# Altium footprint library Pin Header WR-PHD_1.27 mm.PcbLib: 31 footprints (part 1 of 2)
Each footprint in its own frame and in the unit in brackets; x right, y up, seen from the top. Pads: shape width x height; smd on the part's side, far side on the other; paste and mask are expansions set on the pad; w line width, h text height; cw(c..) or ccw(c..) is an arc to the next point about the centre after c.
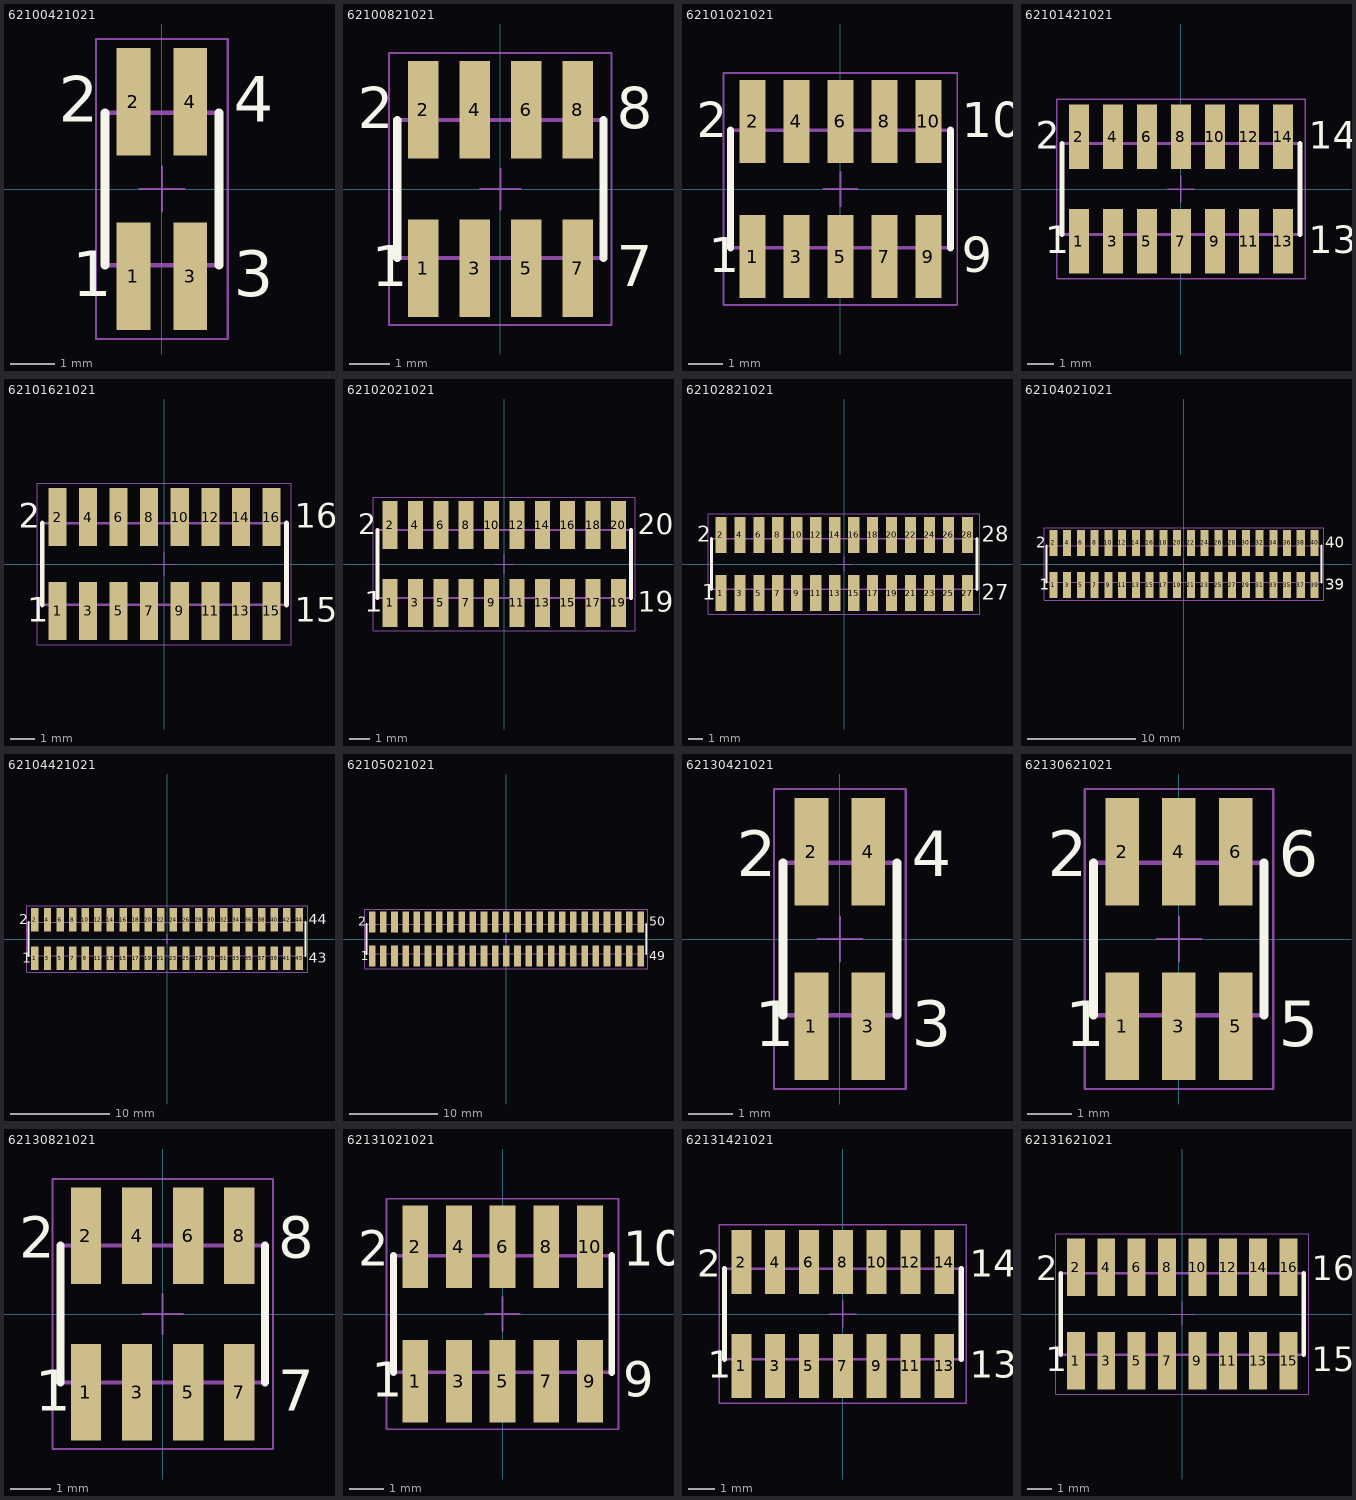
[diagram p0: the footprints below, top view; thin cyan lines are the x and y axes]

## 62100421021 [mm] "Pin Header, pitch 1.27 mm, SMD, Vertical, dual row, 4p"
height 6.55
pads (4):
  rect 0.75x2.4 smd: 1(-0.635,-1.95) 2(-0.635,1.95) 3(0.635,-1.95) 4(0.635,1.95)
Top Overlay:
  lines w0.2: -1.27,-1.7 -1.27,1.7 ; 1.27,-1.7 1.27,1.7
  text "1" at -2,-2.4 h1.02
  text "2" at -2.3,1.5 h1.02
  text "3" at 1.6,-2.4 h1.02
  text "4" at 1.6,1.5 h1.02
Mechanical 13:
  lines w0.1: -0.835,-1.7 -0.835,-2.5 -0.435,-2.5 -0.435,-1.7 ; -0.835,1.7 -0.835,2.5 -0.435,2.5 -0.435,1.7 ; 0.435,-1.7 0.435,-2.5 0.835,-2.5 0.835,-1.7 ; 0.435,1.7 0.435,2.5 0.835,2.5 0.835,1.7 ; -1.27,-1.7 -1.27,1.7 1.27,1.7 1.27,-1.7 -1.27,-1.7
Mechanical 15:
  lines w0.05: -0.5,0 0.5,0 ; 0,-0.5 0,0.5 ; -1.47,-3.35 -1.47,3.35 1.47,3.35 1.47,-3.35 -1.47,-3.35
3D body "62100421021.stp": height 5.9, standoff 0, extent -1.27,-2.55 1.27,2.55

## 62100821021 [mm] "Pin Header, pitch 1.27 mm, SMD, Vertical, dual row, 8p"
height 6.55
pads (8):
  rect 0.75x2.4 smd: 1(-1.905,-1.95) 2(-1.905,1.95) 3(-0.635,-1.95) 4(-0.635,1.95) 5(0.635,-1.95) 6(0.635,1.95) 7(1.905,-1.95) 8(1.905,1.95)
Top Overlay:
  lines w0.2: -2.54,-1.7 -2.54,1.7 ; 2.54,-1.7 2.54,1.7
  text "2" at -3.509,1.5 h1.02
  text "1" at -3.17,-2.4 h1.02
  text "7" at 2.87,-2.4 h1.02
  text "8" at 2.87,1.5 h1.02
Mechanical 13:
  lines w0.1: -2.105,-1.7 -2.105,-2.5 -1.705,-2.5 -1.705,-1.7 ; -2.105,1.7 -2.105,2.5 -1.705,2.5 -1.705,1.7 ; -0.835,-1.7 -0.835,-2.5 -0.435,-2.5 -0.435,-1.7 ; -0.835,1.7 -0.835,2.5 -0.435,2.5 -0.435,1.7 ; 0.435,-1.7 0.435,-2.5 0.835,-2.5 0.835,-1.7 ; 0.435,1.7 0.435,2.5 0.835,2.5 0.835,1.7 ; 1.705,-1.7 1.705,-2.5 2.105,-2.5 2.105,-1.7 ; 1.705,1.7 1.705,2.5 2.105,2.5 2.105,1.7 ; -2.54,-1.7 2.54,-1.7 2.54,1.7 -2.54,1.7 -2.54,-1.7
Mechanical 15:
  lines w0.05: -0.5,0 0.5,0 ; 0,-0.5 0,0.5 ; -2.74,-3.35 2.74,-3.35 2.74,3.35 -2.74,3.35 -2.74,-3.35
3D body "62100821021.stp": height 5.9, standoff -0.01, extent -2.54,-2.5 2.54,2.5

## 62101021021 [mm] "Pin Header, pitch 1.27 mm, SMD, Vertical, dual row, 10p"
height 6.55
pads (10):
  rect 0.75x2.4 smd: 1(-2.54,-1.95) 2(-2.54,1.95) 3(-1.27,-1.95) 4(-1.27,1.95) 5(0,-1.95) 6(0,1.95) 7(1.27,-1.95) 8(1.27,1.95) 9(2.54,-1.95) 10(2.54,1.95)
Top Overlay:
  lines w0.2: -3.175,-1.7 -3.175,1.7 ; 3.175,-1.7 3.175,1.7
  text "10" at 3.505,1.5 h1.02
  text "9" at 3.505,-2.4 h1.02
  text "1" at -3.805,-2.4 h1.02
  text "2" at -4.144,1.5 h1.02
Mechanical 13:
  lines w0.1: -2.74,-1.7 -2.74,-2.5 -2.34,-2.5 -2.34,-1.7 ; -2.74,1.7 -2.74,2.5 -2.34,2.5 -2.34,1.7 ; -1.47,-1.7 -1.47,-2.5 -1.07,-2.5 -1.07,-1.7 ; -1.47,1.7 -1.47,2.5 -1.07,2.5 -1.07,1.7 ; -0.2,-1.7 -0.2,-2.5 0.2,-2.5 0.2,-1.7 ; -0.2,1.7 -0.2,2.5 0.2,2.5 0.2,1.7 ; 1.07,-1.7 1.07,-2.5 1.47,-2.5 1.47,-1.7 ; 1.07,1.7 1.07,2.5 1.47,2.5 1.47,1.7 ; 2.34,-1.7 2.34,-2.5 2.74,-2.5 2.74,-1.7 ; 2.34,1.7 2.34,2.5 2.74,2.5 2.74,1.7 ; -3.175,-1.7 -3.175,1.7 3.175,1.7 3.175,-1.7 -3.175,-1.7
Mechanical 15:
  lines w0.05: -0.5,0 0.5,0 ; 0,-0.5 0,0.5 ; -3.375,-3.35 -3.375,3.35 3.375,3.35 3.375,-3.35 -3.375,-3.35
3D body "62101021021.stp": height 5.9, standoff -0.01, extent -3.175,-2.5 3.175,2.5

## 62101421021 [mm] "Pin Header, pitch 1.27 mm, SMD, Vertical, dual row, 14p"
height 6.55
pads (14):
  rect 0.75x2.4 smd: 1(-3.81,-1.95) 2(-3.81,1.95) 3(-2.54,-1.95) 4(-2.54,1.95) 5(-1.27,-1.95) 6(-1.27,1.95) 7(0,-1.95) 8(0,1.95) 9(1.27,-1.95) 10(1.27,1.95) 11(2.54,-1.95) 12(2.54,1.95) 13(3.81,-1.95) 14(3.81,1.95)
Top Overlay:
  lines w0.2: -4.445,-1.7 -4.445,1.7 ; 4.445,-1.7 4.445,1.7
  text "14" at 4.775,1.5 h1.02
  text "13" at 4.775,-2.4 h1.02
  text "2" at -5.414,1.5 h1.02
  text "1" at -5.075,-2.4 h1.02
Mechanical 13:
  lines w0.1: -4.01,-1.7 -4.01,-2.5 -3.61,-2.5 -3.61,-1.7 ; -4.01,1.7 -4.01,2.5 -3.61,2.5 -3.61,1.7 ; -2.74,-1.7 -2.74,-2.5 -2.34,-2.5 -2.34,-1.7 ; -2.74,1.7 -2.74,2.5 -2.34,2.5 -2.34,1.7 ; -1.47,-1.7 -1.47,-2.5 -1.07,-2.5 -1.07,-1.7 ; -1.47,1.7 -1.47,2.5 -1.07,2.5 -1.07,1.7 ; -0.2,-1.7 -0.2,-2.5 0.2,-2.5 0.2,-1.7 ; -0.2,1.7 -0.2,2.5 0.2,2.5 0.2,1.7 ; 1.07,-1.7 1.07,-2.5 1.47,-2.5 1.47,-1.7 ; 1.07,1.7 1.07,2.5 1.47,2.5 1.47,1.7 ; 2.34,-1.7 2.34,-2.5 2.74,-2.5 2.74,-1.7 ; 2.34,1.7 2.34,2.5 2.74,2.5 2.74,1.7 ; 3.61,-1.7 3.61,-2.5 4.01,-2.5 4.01,-1.7 ; 3.61,1.7 3.61,2.5 4.01,2.5 4.01,1.7 ; -4.445,-1.7 4.445,-1.7 4.445,1.7 -4.445,1.7 -4.445,-1.7
Mechanical 15:
  lines w0.05: -0.5,0 0.5,0 ; 0,-0.5 0,0.5 ; -4.645,-3.35 4.645,-3.35 4.645,3.35 -4.645,3.35 -4.645,-3.35
3D body "62101421021.stp": height 5.9, standoff -0.01, extent -4.445,-2.5 4.445,2.5

## 62101621021 [mm] "Pin Header, pitch 1.27 mm, SMD, Vertical, dual row, 16p"
height 6.55
pads (16):
  rect 0.75x2.4 smd: 1(-4.445,-1.95) 2(-4.445,1.95) 3(-3.175,-1.95) 4(-3.175,1.95) 5(-1.905,-1.95) 6(-1.905,1.95) 7(-0.635,-1.95) 8(-0.635,1.95) 9(0.635,-1.95) 10(0.635,1.95) 11(1.905,-1.95) 12(1.905,1.95) 13(3.175,-1.95) 14(3.175,1.95) 15(4.445,-1.95) 16(4.445,1.95)
Top Overlay:
  lines w0.2: -5.08,-1.7 -5.08,1.7 ; 5.08,-1.7 5.08,1.7
  text "16" at 5.41,1.5 h1.02
  text "15" at 5.41,-2.4 h1.02
  text "2" at -6.049,1.5 h1.02
  text "1" at -5.71,-2.4 h1.02
Mechanical 13:
  lines w0.1: -4.645,-1.7 -4.645,-2.5 -4.245,-2.5 -4.245,-1.7 ; -4.645,1.7 -4.645,2.5 -4.245,2.5 -4.245,1.7 ; -3.375,-1.7 -3.375,-2.5 -2.975,-2.5 -2.975,-1.7 ; -3.375,1.7 -3.375,2.5 -2.975,2.5 -2.975,1.7 ; -2.105,-1.7 -2.105,-2.5 -1.705,-2.5 -1.705,-1.7 ; -2.105,1.7 -2.105,2.5 -1.705,2.5 -1.705,1.7 ; -0.835,-1.7 -0.835,-2.5 -0.435,-2.5 -0.435,-1.7 ; -0.835,1.7 -0.835,2.5 -0.435,2.5 -0.435,1.7 ; 0.435,-1.7 0.435,-2.5 0.835,-2.5 0.835,-1.7 ; 0.435,1.7 0.435,2.5 0.835,2.5 0.835,1.7 ; 1.705,-1.7 1.705,-2.5 2.105,-2.5 2.105,-1.7 ; 1.705,1.7 1.705,2.5 2.105,2.5 2.105,1.7 ; 2.975,-1.7 2.975,-2.5 3.375,-2.5 3.375,-1.7 ; 2.975,1.7 2.975,2.5 3.375,2.5 3.375,1.7 ; 4.245,-1.7 4.245,-2.5 4.645,-2.5 4.645,-1.7 ; 4.245,1.7 4.245,2.5 4.645,2.5 4.645,1.7 ; -5.08,-1.7 5.08,-1.7 5.08,1.7 -5.08,1.7 -5.08,-1.7
Mechanical 15:
  lines w0.05: -0.5,0 0.5,0 ; 0,-0.5 0,0.5 ; -5.28,-3.35 5.28,-3.35 5.28,3.35 -5.28,3.35 -5.28,-3.35
3D body "62101621021.stp": height 5.9, standoff -0.01, extent -5.08,-2.5 5.08,2.5

## 62102021021 [mm] "Pin Header, pitch 1.27 mm, SMD, Vertical, dual row, 20p"
height 6.55
pads (20):
  rect 0.75x2.4 smd: 1(-5.715,-1.95) 2(-5.715,1.95) 3(-4.445,-1.95) 4(-4.445,1.95) 5(-3.175,-1.95) 6(-3.175,1.95) 7(-1.905,-1.95) 8(-1.905,1.95) 9(-0.635,-1.95) 10(-0.635,1.95) 11(0.635,-1.95) 12(0.635,1.95) 13(1.905,-1.95) 14(1.905,1.95) 15(3.175,-1.95) 16(3.175,1.95) 17(4.445,-1.95) 18(4.445,1.95) 19(5.715,-1.95) 20(5.715,1.95)
Top Overlay:
  lines w0.2: -6.35,-1.7 -6.35,1.7 ; 6.35,-1.7 6.35,1.7
  text "20" at 6.68,1.5 h1.02
  text "19" at 6.68,-2.4 h1.02
  text "1" at -6.98,-2.4 h1.02
  text "2" at -7.319,1.5 h1.02
Mechanical 13:
  lines w0.1: -5.915,-1.7 -5.915,-2.5 -5.515,-2.5 -5.515,-1.7 ; -5.915,1.7 -5.915,2.5 -5.515,2.5 -5.515,1.7 ; -4.645,-1.7 -4.645,-2.5 -4.245,-2.5 -4.245,-1.7 ; -4.645,1.7 -4.645,2.5 -4.245,2.5 -4.245,1.7 ; -3.375,-1.7 -3.375,-2.5 -2.975,-2.5 -2.975,-1.7 ; -3.375,1.7 -3.375,2.5 -2.975,2.5 -2.975,1.7 ; -2.105,-1.7 -2.105,-2.5 -1.705,-2.5 -1.705,-1.7 ; -2.105,1.7 -2.105,2.5 -1.705,2.5 -1.705,1.7 ; -0.835,-1.7 -0.835,-2.5 -0.435,-2.5 -0.435,-1.7 ; -0.835,1.7 -0.835,2.5 -0.435,2.5 -0.435,1.7 ; 0.435,-1.7 0.435,-2.5 0.835,-2.5 0.835,-1.7 ; 0.435,1.7 0.435,2.5 0.835,2.5 0.835,1.7 ; 1.705,-1.7 1.705,-2.5 2.105,-2.5 2.105,-1.7 ; 1.705,1.7 1.705,2.5 2.105,2.5 2.105,1.7 ; 2.975,-1.7 2.975,-2.5 3.375,-2.5 3.375,-1.7 ; 2.975,1.7 2.975,2.5 3.375,2.5 3.375,1.7 ; 4.245,-1.7 4.245,-2.5 4.645,-2.5 4.645,-1.7 ; 4.245,1.7 4.245,2.5 4.645,2.5 4.645,1.7 ; 5.515,-1.7 5.515,-2.5 5.915,-2.5 5.915,-1.7 ; 5.515,1.7 5.515,2.5 5.915,2.5 5.915,1.7 ; -6.35,-1.7 -6.35,1.7 6.35,1.7 6.35,-1.7 -6.35,-1.7
Mechanical 15:
  lines w0.05: -0.5,0 0.5,0 ; 0,-0.5 0,0.5 ; -6.55,-3.35 -6.55,3.35 6.55,3.35 6.55,-3.35 -6.55,-3.35
3D body "62102021021.stp": height 5.9, standoff -0.01, extent -6.35,-2.5 6.35,2.5

## 62102821021 [mm] "Pin Header, pitch 1.27 mm, SMD, Vertical, dual row, 28p"
height 6.55
pads (28):
  rect 0.75x2.4 smd: 1(-8.255,-1.95) 2(-8.255,1.95) 3(-6.985,-1.95) 4(-6.985,1.95) 5(-5.715,-1.95) 6(-5.715,1.95) 7(-4.445,-1.95) 8(-4.445,1.95) 9(-3.175,-1.95) 10(-3.175,1.95) 11(-1.905,-1.95) 12(-1.905,1.95) 13(-0.635,-1.95) 14(-0.635,1.95) 15(0.635,-1.95) 16(0.635,1.95) 17(1.905,-1.95) 18(1.905,1.95) 19(3.175,-1.95) 20(3.175,1.95) 21(4.445,-1.95) 22(4.445,1.95) 23(5.715,-1.95) 24(5.715,1.95) 25(6.985,-1.95) 26(6.985,1.95) 27(8.255,-1.95) 28(8.255,1.95)
Top Overlay:
  lines w0.2: -8.89,-1.7 -8.89,1.7 ; 8.89,-1.7 8.89,1.7
  text "2" at -9.859,1.5 h1.02
  text "1" at -9.52,-2.4 h1.02
  text "27" at 9.22,-2.4 h1.02
  text "28" at 9.22,1.5 h1.02
Mechanical 13:
  lines w0.1: -8.455,-1.7 -8.455,-2.5 -8.055,-2.5 -8.055,-1.7 ; -8.455,1.7 -8.455,2.5 -8.055,2.5 -8.055,1.7 ; -7.185,-1.7 -7.185,-2.5 -6.785,-2.5 -6.785,-1.7 ; -7.185,1.7 -7.185,2.5 -6.785,2.5 -6.785,1.7 ; -5.915,-1.7 -5.915,-2.5 -5.515,-2.5 -5.515,-1.7 ; -5.915,1.7 -5.915,2.5 -5.515,2.5 -5.515,1.7 ; -4.645,-1.7 -4.645,-2.5 -4.245,-2.5 -4.245,-1.7 ; -4.645,1.7 -4.645,2.5 -4.245,2.5 -4.245,1.7 ; -3.375,-1.7 -3.375,-2.5 -2.975,-2.5 -2.975,-1.7 ; -3.375,1.7 -3.375,2.5 -2.975,2.5 -2.975,1.7 ; -2.105,-1.7 -2.105,-2.5 -1.705,-2.5 -1.705,-1.7 ; -2.105,1.7 -2.105,2.5 -1.705,2.5 -1.705,1.7 ; -0.835,-1.7 -0.835,-2.5 -0.435,-2.5 -0.435,-1.7 ; -0.835,1.7 -0.835,2.5 -0.435,2.5 -0.435,1.7 ; 0.435,-1.7 0.435,-2.5 0.835,-2.5 0.835,-1.7 ; 0.435,1.7 0.435,2.5 0.835,2.5 0.835,1.7 ; 1.705,-1.7 1.705,-2.5 2.105,-2.5 2.105,-1.7 ; 1.705,1.7 1.705,2.5 2.105,2.5 2.105,1.7 ; 2.975,-1.7 2.975,-2.5 3.375,-2.5 3.375,-1.7 ; 2.975,1.7 2.975,2.5 3.375,2.5 3.375,1.7 ; 4.245,-1.7 4.245,-2.5 4.645,-2.5 4.645,-1.7 ; 4.245,1.7 4.245,2.5 4.645,2.5 4.645,1.7 ; 5.515,-1.7 5.515,-2.5 5.915,-2.5 5.915,-1.7 ; 5.515,1.7 5.515,2.5 5.915,2.5 5.915,1.7 ; 6.785,-1.7 6.785,-2.5 7.185,-2.5 7.185,-1.7 ; 6.785,1.7 6.785,2.5 7.185,2.5 7.185,1.7 ; 8.055,-1.7 8.055,-2.5 8.455,-2.5 8.455,-1.7 ; 8.055,1.7 8.055,2.5 8.455,2.5 8.455,1.7 ; -8.89,-1.7 8.89,-1.7 8.89,1.7 -8.89,1.7 -8.89,-1.7
Mechanical 15:
  lines w0.05: -0.5,0 0.5,0 ; 0,-0.5 0,0.5 ; -9.09,-3.35 9.09,-3.35 9.09,3.35 -9.09,3.35 -9.09,-3.35
3D body "62102821021.stp": height 5.9, standoff -0.01, extent -8.89,-2.5 8.89,2.5

## 62104021021 [mm] "Pin Header, pitch 1.27 mm, SMD, Vertical, dual row, 40p"
height 6.55
pads (40):
  rect 0.75x2.4 smd: 1(-12.065,-1.95) 2(-12.065,1.95) 3(-10.795,-1.95) 4(-10.795,1.95) 5(-9.525,-1.95) 6(-9.525,1.95) 7(-8.255,-1.95) 8(-8.255,1.95) 9(-6.985,-1.95) 10(-6.985,1.95) 11(-5.715,-1.95) 12(-5.715,1.95) 13(-4.445,-1.95) 14(-4.445,1.95) 15(-3.175,-1.95) 16(-3.175,1.95) 17(-1.905,-1.95) 18(-1.905,1.95) 19(-0.635,-1.95) 20(-0.635,1.95) 21(0.635,-1.95) 22(0.635,1.95) 23(1.905,-1.95) 24(1.905,1.95) 25(3.175,-1.95) 26(3.175,1.95) 27(4.445,-1.95) 28(4.445,1.95) 29(5.715,-1.95) 30(5.715,1.95) 31(6.985,-1.95) 32(6.985,1.95) 33(8.255,-1.95) 34(8.255,1.95) 35(9.525,-1.95) 36(9.525,1.95) 37(10.795,-1.95) 38(10.795,1.95) 39(12.065,-1.95) 40(12.065,1.95)
Top Overlay:
  lines w0.2: -12.7,-1.7 -12.7,1.7 ; 12.7,-1.7 12.7,1.7
  text "40" at 13.03,1.5 h1.02
  text "39" at 13.03,-2.4 h1.02
  text "1" at -13.33,-2.4 h1.02
  text "2" at -13.669,1.5 h1.02
Mechanical 13:
  lines w0.1: -12.265,-1.7 -12.265,-2.5 -11.865,-2.5 -11.865,-1.7 ; -12.265,1.7 -12.265,2.5 -11.865,2.5 -11.865,1.7 ; -10.995,-1.7 -10.995,-2.5 -10.595,-2.5 -10.595,-1.7 ; -10.995,1.7 -10.995,2.5 -10.595,2.5 -10.595,1.7 ; -9.725,-1.7 -9.725,-2.5 -9.325,-2.5 -9.325,-1.7 ; -9.725,1.7 -9.725,2.5 -9.325,2.5 -9.325,1.7 ; -8.455,-1.7 -8.455,-2.5 -8.055,-2.5 -8.055,-1.7 ; -8.455,1.7 -8.455,2.5 -8.055,2.5 -8.055,1.7 ; -7.185,-1.7 -7.185,-2.5 -6.785,-2.5 -6.785,-1.7 ; -7.185,1.7 -7.185,2.5 -6.785,2.5 -6.785,1.7 ; -5.915,-1.7 -5.915,-2.5 -5.515,-2.5 -5.515,-1.7 ; -5.915,1.7 -5.915,2.5 -5.515,2.5 -5.515,1.7 ; -4.645,-1.7 -4.645,-2.5 -4.245,-2.5 -4.245,-1.7 ; -4.645,1.7 -4.645,2.5 -4.245,2.5 -4.245,1.7 ; -3.375,-1.7 -3.375,-2.5 -2.975,-2.5 -2.975,-1.7 ; -3.375,1.7 -3.375,2.5 -2.975,2.5 -2.975,1.7 ; -2.105,-1.7 -2.105,-2.5 -1.705,-2.5 -1.705,-1.7 ; -2.105,1.7 -2.105,2.5 -1.705,2.5 -1.705,1.7 ; -0.835,-1.7 -0.835,-2.5 -0.435,-2.5 -0.435,-1.7 ; -0.835,1.7 -0.835,2.5 -0.435,2.5 -0.435,1.7 ; 0.435,-1.7 0.435,-2.5 0.835,-2.5 0.835,-1.7 ; 0.435,1.7 0.435,2.5 0.835,2.5 0.835,1.7 ; 1.705,-1.7 1.705,-2.5 2.105,-2.5 2.105,-1.7 ; 1.705,1.7 1.705,2.5 2.105,2.5 2.105,1.7 ; 2.975,-1.7 2.975,-2.5 3.375,-2.5 3.375,-1.7 ; 2.975,1.7 2.975,2.5 3.375,2.5 3.375,1.7 ; 4.245,-1.7 4.245,-2.5 4.645,-2.5 4.645,-1.7 ; 4.245,1.7 4.245,2.5 4.645,2.5 4.645,1.7 ; 5.515,-1.7 5.515,-2.5 5.915,-2.5 5.915,-1.7 ; 5.515,1.7 5.515,2.5 5.915,2.5 5.915,1.7 ; 6.785,-1.7 6.785,-2.5 7.185,-2.5 7.185,-1.7 ; 6.785,1.7 6.785,2.5 7.185,2.5 7.185,1.7 ; 8.055,-1.7 8.055,-2.5 8.455,-2.5 8.455,-1.7 ; 8.055,1.7 8.055,2.5 8.455,2.5 8.455,1.7 ; 9.325,-1.7 9.325,-2.5 9.725,-2.5 9.725,-1.7 ; 9.325,1.7 9.325,2.5 9.725,2.5 9.725,1.7 ; 10.595,-1.7 10.595,-2.5 10.995,-2.5 10.995,-1.7 ; 10.595,1.7 10.595,2.5 10.995,2.5 10.995,1.7 ; 11.865,-1.7 11.865,-2.5 12.265,-2.5 12.265,-1.7 ; 11.865,1.7 11.865,2.5 12.265,2.5 12.265,1.7 ; -12.7,-1.7 -12.7,1.7 12.7,1.7 12.7,-1.7 -12.7,-1.7
Mechanical 15:
  lines w0.05: -0.5,0 0.5,0 ; 0,-0.5 0,0.5 ; -12.9,-3.35 -12.9,3.35 12.9,3.35 12.9,-3.35 -12.9,-3.35
3D body "62104021021.stp": height 5.9, standoff -0.01, extent -12.7,-2.5 12.7,2.5

## 62104421021 [mm] "Pin Header, pitch 1.27 mm, SMD, Vertical, dual row, 44p"
height 6.55
pads (44):
  rect 0.75x2.4 smd: 1(-13.335,-1.95) 2(-13.335,1.95) 3(-12.065,-1.95) 4(-12.065,1.95) 5(-10.795,-1.95) 6(-10.795,1.95) 7(-9.525,-1.95) 8(-9.525,1.95) 9(-8.255,-1.95) 10(-8.255,1.95) 11(-6.985,-1.95) 12(-6.985,1.95) 13(-5.715,-1.95) 14(-5.715,1.95) 15(-4.445,-1.95) 16(-4.445,1.95) 17(-3.175,-1.95) 18(-3.175,1.95) 19(-1.905,-1.95) 20(-1.905,1.95) 21(-0.635,-1.95) 22(-0.635,1.95) 23(0.635,-1.95) 24(0.635,1.95) 25(1.905,-1.95) 26(1.905,1.95) 27(3.175,-1.95) 28(3.175,1.95) 29(4.445,-1.95) 30(4.445,1.95) 31(5.715,-1.95) 32(5.715,1.95) 33(6.985,-1.95) 34(6.985,1.95) 35(8.255,-1.95) 36(8.255,1.95) 37(9.525,-1.95) 38(9.525,1.95) 39(10.795,-1.95) 40(10.795,1.95) 41(12.065,-1.95) 42(12.065,1.95) 43(13.335,-1.95) 44(13.335,1.95)
Top Overlay:
  lines w0.2: -13.97,-1.7 -13.97,1.7 ; 13.97,-1.7 13.97,1.7
  text "44" at 14.3,1.5 h1.02
  text "43" at 14.3,-2.4 h1.02
  text "2" at -14.939,1.5 h1.02
  text "1" at -14.6,-2.4 h1.02
Mechanical 13:
  lines w0.1: -13.535,-1.7 -13.535,-2.5 -13.135,-2.5 -13.135,-1.7 ; -13.535,1.7 -13.535,2.5 -13.135,2.5 -13.135,1.7 ; -12.265,-1.7 -12.265,-2.5 -11.865,-2.5 -11.865,-1.7 ; -12.265,1.7 -12.265,2.5 -11.865,2.5 -11.865,1.7 ; -10.995,-1.7 -10.995,-2.5 -10.595,-2.5 -10.595,-1.7 ; -10.995,1.7 -10.995,2.5 -10.595,2.5 -10.595,1.7 ; -9.725,-1.7 -9.725,-2.5 -9.325,-2.5 -9.325,-1.7 ; -9.725,1.7 -9.725,2.5 -9.325,2.5 -9.325,1.7 ; -8.455,-1.7 -8.455,-2.5 -8.055,-2.5 -8.055,-1.7 ; -8.455,1.7 -8.455,2.5 -8.055,2.5 -8.055,1.7 ; -7.185,-1.7 -7.185,-2.5 -6.785,-2.5 -6.785,-1.7 ; -7.185,1.7 -7.185,2.5 -6.785,2.5 -6.785,1.7 ; -5.915,-1.7 -5.915,-2.5 -5.515,-2.5 -5.515,-1.7 ; -5.915,1.7 -5.915,2.5 -5.515,2.5 -5.515,1.7 ; -4.645,-1.7 -4.645,-2.5 -4.245,-2.5 -4.245,-1.7 ; -4.645,1.7 -4.645,2.5 -4.245,2.5 -4.245,1.7 ; -3.375,-1.7 -3.375,-2.5 -2.975,-2.5 -2.975,-1.7 ; -3.375,1.7 -3.375,2.5 -2.975,2.5 -2.975,1.7 ; -2.105,-1.7 -2.105,-2.5 -1.705,-2.5 -1.705,-1.7 ; -2.105,1.7 -2.105,2.5 -1.705,2.5 -1.705,1.7 ; -0.835,-1.7 -0.835,-2.5 -0.435,-2.5 -0.435,-1.7 ; -0.835,1.7 -0.835,2.5 -0.435,2.5 -0.435,1.7 ; 0.435,-1.7 0.435,-2.5 0.835,-2.5 0.835,-1.7 ; 0.435,1.7 0.435,2.5 0.835,2.5 0.835,1.7 ; 1.705,-1.7 1.705,-2.5 2.105,-2.5 2.105,-1.7 ; 1.705,1.7 1.705,2.5 2.105,2.5 2.105,1.7 ; 2.975,-1.7 2.975,-2.5 3.375,-2.5 3.375,-1.7 ; 2.975,1.7 2.975,2.5 3.375,2.5 3.375,1.7 ; 4.245,-1.7 4.245,-2.5 4.645,-2.5 4.645,-1.7 ; 4.245,1.7 4.245,2.5 4.645,2.5 4.645,1.7 ; 5.515,-1.7 5.515,-2.5 5.915,-2.5 5.915,-1.7 ; 5.515,1.7 5.515,2.5 5.915,2.5 5.915,1.7 ; 6.785,-1.7 6.785,-2.5 7.185,-2.5 7.185,-1.7 ; 6.785,1.7 6.785,2.5 7.185,2.5 7.185,1.7 ; 8.055,-1.7 8.055,-2.5 8.455,-2.5 8.455,-1.7 ; 8.055,1.7 8.055,2.5 8.455,2.5 8.455,1.7 ; 9.325,-1.7 9.325,-2.5 9.725,-2.5 9.725,-1.7 ; 9.325,1.7 9.325,2.5 9.725,2.5 9.725,1.7 ; 10.595,-1.7 10.595,-2.5 10.995,-2.5 10.995,-1.7 ; 10.595,1.7 10.595,2.5 10.995,2.5 10.995,1.7 ; 11.865,-1.7 11.865,-2.5 12.265,-2.5 12.265,-1.7 ; 11.865,1.7 11.865,2.5 12.265,2.5 12.265,1.7 ; 13.135,-1.7 13.135,-2.5 13.535,-2.5 13.535,-1.7 ; 13.135,1.7 13.135,2.5 13.535,2.5 13.535,1.7 ; -13.97,-1.7 13.97,-1.7 13.97,1.7 -13.97,1.7 -13.97,-1.7
Mechanical 15:
  lines w0.05: -0.5,0 0.5,0 ; 0,-0.5 0,0.5 ; -14.17,-3.35 14.17,-3.35 14.17,3.35 -14.17,3.35 -14.17,-3.35
3D body "62104421021.stp": height 5.9, standoff -0.01, extent -13.97,-2.5 13.97,2.5

## 62105021021 [mm] "Pin Header, pitch 1.27 mm, SMD, Vertical, dual row, 50p"
height 6.55
pads (50):
  rect 0.75x2.4 smd: 1(-15.24,-1.95) 2(-15.24,1.95) 3(-13.97,-1.95) 4(-13.97,1.95) 5(-12.7,-1.95) 6(-12.7,1.95) 7(-11.43,-1.95) 8(-11.43,1.95) 9(-10.16,-1.95) 10(-10.16,1.95) 11(-8.89,-1.95) 12(-8.89,1.95) 13(-7.62,-1.95) 14(-7.62,1.95) 15(-6.35,-1.95) 16(-6.35,1.95) 17(-5.08,-1.95) 18(-5.08,1.95) 19(-3.81,-1.95) 20(-3.81,1.95) 21(-2.54,-1.95) 22(-2.54,1.95) 23(-1.27,-1.95) 24(-1.27,1.95) 25(0,-1.95) 26(0,1.95) 27(1.27,-1.95) 28(1.27,1.95) 29(2.54,-1.95) 30(2.54,1.95) 31(3.81,-1.95) 32(3.81,1.95) 33(5.08,-1.95) 34(5.08,1.95) 35(6.35,-1.95) 36(6.35,1.95) 37(7.62,-1.95) 38(7.62,1.95) 39(8.89,-1.95) 40(8.89,1.95) 41(10.16,-1.95) 42(10.16,1.95) 43(11.43,-1.95) 44(11.43,1.95) 45(12.7,-1.95) 46(12.7,1.95) 47(13.97,-1.95) 48(13.97,1.95) 49(15.24,-1.95) 50(15.24,1.95)
Top Overlay:
  lines w0.2: -15.875,-1.7 -15.875,1.7 ; 15.875,-1.7 15.875,1.7
  text "50" at 16.205,1.5 h1.02
  text "49" at 16.205,-2.4 h1.02
  text "2" at -16.844,1.5 h1.02
  text "1" at -16.505,-2.4 h1.02
Mechanical 13:
  drawing of 154 lines, arcs and shapes, not listed
Mechanical 15:
  lines w0.05: -0.5,0 0.5,0 ; 0,-0.5 0,0.5 ; -16.075,-3.35 16.075,-3.35 16.075,3.35 -16.075,3.35 -16.075,-3.35
3D body "62105021021.stp": height 5.9, standoff -0.01, extent -15.875,-2.5 15.875,2.5

## 62130421021 [mm] "Pin Header, pitch 1.27 mm, SMD, Vertical, dual row, 4p"
height 6.1
pads (4):
  rect 0.75x2.4 smd: 1(-0.635,-1.95) 2(-0.635,1.95) 3(0.635,-1.95) 4(0.635,1.95)
Top Overlay:
  lines w0.2: -1.27,-1.7 -1.27,1.7 ; 1.27,-1.7 1.27,1.7
  text "1" at -1.9,-2.4 h1.02
  text "3" at 1.6,-2.4 h1.02
  text "2" at -2.3,1.4 h1.02
  text "4" at 1.6,1.4 h1.02
Mechanical 13:
  lines w0.1: -0.835,-1.7 -0.835,-2.5 -0.435,-2.5 -0.435,-1.7 ; -0.835,1.7 -0.835,2.5 -0.435,2.5 -0.435,1.7 ; 0.435,-1.7 0.435,-2.5 0.835,-2.5 0.835,-1.7 ; 0.435,1.7 0.435,2.5 0.835,2.5 0.835,1.7 ; -1.27,-1.7 -1.27,1.7 1.27,1.7 1.27,-1.7 -1.27,-1.7
Mechanical 15:
  lines w0.05: -0.5,0 0.5,0 ; 0,-0.5 0,0.5 ; -1.47,-3.35 -1.47,3.35 1.47,3.35 1.47,-3.35 -1.47,-3.35
3D body "62130421021.stp": height 5.9, standoff 0, extent -1.27,-2.55 1.27,2.55

## 62130621021 [mm] "Pin Header, pitch 1.27 mm, SMD, Vertical, dual row, 6p"
height 6.1
pads (6):
  rect 0.75x2.4 smd: 1(-1.27,-1.95) 2(-1.27,1.95) 3(0,-1.95) 4(0,1.95) 5(1.27,-1.95) 6(1.27,1.95)
Top Overlay:
  lines w0.2: -1.905,-1.7 -1.905,1.7 ; 1.905,-1.7 1.905,1.7
  text "6" at 2.235,1.4 h1.02
  text "5" at 2.235,-2.4 h1.02
  text "2" at -2.935,1.4 h1.02
  text "1" at -2.535,-2.4 h1.02
Mechanical 13:
  lines w0.1: -1.47,-1.7 -1.47,-2.5 -1.07,-2.5 -1.07,-1.7 ; -1.47,1.7 -1.47,2.5 -1.07,2.5 -1.07,1.7 ; -0.2,-1.7 -0.2,-2.5 0.2,-2.5 0.2,-1.7 ; -0.2,1.7 -0.2,2.5 0.2,2.5 0.2,1.7 ; 1.07,-1.7 1.07,-2.5 1.47,-2.5 1.47,-1.7 ; 1.07,1.7 1.07,2.5 1.47,2.5 1.47,1.7 ; -1.905,-1.7 1.905,-1.7 1.905,1.7 -1.905,1.7 -1.905,-1.7
Mechanical 15:
  lines w0.05: -0.5,0 0.5,0 ; 0,-0.5 0,0.5 ; -2.105,-3.35 2.105,-3.35 2.105,3.35 -2.105,3.35 -2.105,-3.35
3D body "62130621021.stp": height 5.9, standoff 0, extent -1.905,-2.55 1.905,2.55

## 62130821021 [mm] "Pin Header, pitch 1.27 mm, SMD, Vertical, dual row, 8p"
height 6.1
pads (8):
  rect 0.75x2.4 smd: 1(-1.905,-1.95) 2(-1.905,1.95) 3(-0.635,-1.95) 4(-0.635,1.95) 5(0.635,-1.95) 6(0.635,1.95) 7(1.905,-1.95) 8(1.905,1.95)
Top Overlay:
  lines w0.2: -2.54,-1.7 -2.54,1.7 ; 2.54,-1.7 2.54,1.7
  text "8" at 2.87,1.4 h1.02
  text "7" at 2.87,-2.4 h1.02
  text "2" at -3.57,1.4 h1.02
  text "1" at -3.17,-2.4 h1.02
Mechanical 13:
  lines w0.1: -2.105,-1.7 -2.105,-2.5 -1.705,-2.5 -1.705,-1.7 ; -2.105,1.7 -2.105,2.5 -1.705,2.5 -1.705,1.7 ; -0.835,-1.7 -0.835,-2.5 -0.435,-2.5 -0.435,-1.7 ; -0.835,1.7 -0.835,2.5 -0.435,2.5 -0.435,1.7 ; 0.435,-1.7 0.435,-2.5 0.835,-2.5 0.835,-1.7 ; 0.435,1.7 0.435,2.5 0.835,2.5 0.835,1.7 ; 1.705,-1.7 1.705,-2.5 2.105,-2.5 2.105,-1.7 ; 1.705,1.7 1.705,2.5 2.105,2.5 2.105,1.7 ; -2.54,-1.7 2.54,-1.7 2.54,1.7 -2.54,1.7 -2.54,-1.7
Mechanical 15:
  lines w0.05: -0.5,0 0.5,0 ; 0,-0.5 0,0.5 ; -2.74,-3.35 2.74,-3.35 2.74,3.35 -2.74,3.35 -2.74,-3.35
3D body "62130821021.stp": height 5.9, standoff 0, extent -2.54,-2.55 2.54,2.55

## 62131021021 [mm] "Pin Header, pitch 1.27 mm, SMD, Vertical, dual row, 10p"
height 6.1
pads (10):
  rect 0.75x2.4 smd: 1(-2.54,-1.95) 2(-2.54,1.95) 3(-1.27,-1.95) 4(-1.27,1.95) 5(0,-1.95) 6(0,1.95) 7(1.27,-1.95) 8(1.27,1.95) 9(2.54,-1.95) 10(2.54,1.95)
Top Overlay:
  lines w0.2: -3.175,-1.7 -3.175,1.7 ; 3.175,-1.7 3.175,1.7
  text "2" at -4.205,1.4 h1.02
  text "1" at -3.805,-2.4 h1.02
  text "9" at 3.505,-2.4 h1.02
  text "10" at 3.505,1.4 h1.02
Mechanical 13:
  lines w0.1: -2.74,-1.7 -2.74,-2.5 -2.34,-2.5 -2.34,-1.7 ; -2.74,1.7 -2.74,2.5 -2.34,2.5 -2.34,1.7 ; -1.47,-1.7 -1.47,-2.5 -1.07,-2.5 -1.07,-1.7 ; -1.47,1.7 -1.47,2.5 -1.07,2.5 -1.07,1.7 ; -0.2,-1.7 -0.2,-2.5 0.2,-2.5 0.2,-1.7 ; -0.2,1.7 -0.2,2.5 0.2,2.5 0.2,1.7 ; 1.07,-1.7 1.07,-2.5 1.47,-2.5 1.47,-1.7 ; 1.07,1.7 1.07,2.5 1.47,2.5 1.47,1.7 ; 2.34,-1.7 2.34,-2.5 2.74,-2.5 2.74,-1.7 ; 2.34,1.7 2.34,2.5 2.74,2.5 2.74,1.7 ; -3.175,-1.7 3.175,-1.7 3.175,1.7 -3.175,1.7 -3.175,-1.7
Mechanical 15:
  lines w0.05: -0.5,0 0.5,0 ; 0,-0.5 0,0.5 ; -3.375,-3.35 3.375,-3.35 3.375,3.35 -3.375,3.35 -3.375,-3.35
3D body "62131021021.stp": height 5.9, standoff 0, extent -3.175,-2.55 3.175,2.55

## 62131421021 [mm] "Pin Header, pitch 1.27 mm, SMD, Vertical, dual row, 14p"
height 6.1
pads (14):
  rect 0.75x2.4 smd: 1(-3.81,-1.95) 2(-3.81,1.95) 3(-2.54,-1.95) 4(-2.54,1.95) 5(-1.27,-1.95) 6(-1.27,1.95) 7(0,-1.95) 8(0,1.95) 9(1.27,-1.95) 10(1.27,1.95) 11(2.54,-1.95) 12(2.54,1.95) 13(3.81,-1.95) 14(3.81,1.95)
Top Overlay:
  lines w0.2: -4.445,-1.7 -4.445,1.7 ; 4.445,-1.7 4.445,1.7
  text "1" at -5.075,-2.4 h1.02
  text "2" at -5.475,1.4 h1.02
  text "13" at 4.775,-2.4 h1.02
  text "14" at 4.775,1.4 h1.02
Mechanical 13:
  lines w0.1: -4.01,-1.7 -4.01,-2.5 -3.61,-2.5 -3.61,-1.7 ; -4.01,1.7 -4.01,2.5 -3.61,2.5 -3.61,1.7 ; -2.74,-1.7 -2.74,-2.5 -2.34,-2.5 -2.34,-1.7 ; -2.74,1.7 -2.74,2.5 -2.34,2.5 -2.34,1.7 ; -1.47,-1.7 -1.47,-2.5 -1.07,-2.5 -1.07,-1.7 ; -1.47,1.7 -1.47,2.5 -1.07,2.5 -1.07,1.7 ; -0.2,-1.7 -0.2,-2.5 0.2,-2.5 0.2,-1.7 ; -0.2,1.7 -0.2,2.5 0.2,2.5 0.2,1.7 ; 1.07,-1.7 1.07,-2.5 1.47,-2.5 1.47,-1.7 ; 1.07,1.7 1.07,2.5 1.47,2.5 1.47,1.7 ; 2.34,-1.7 2.34,-2.5 2.74,-2.5 2.74,-1.7 ; 2.34,1.7 2.34,2.5 2.74,2.5 2.74,1.7 ; 3.61,-1.7 3.61,-2.5 4.01,-2.5 4.01,-1.7 ; 3.61,1.7 3.61,2.5 4.01,2.5 4.01,1.7 ; -4.445,-1.7 -4.445,1.7 4.445,1.7 4.445,-1.7 -4.445,-1.7
Mechanical 15:
  lines w0.05: -0.5,0 0.5,0 ; 0,-0.5 0,0.5 ; -4.645,-3.35 -4.645,3.35 4.645,3.35 4.645,-3.35 -4.645,-3.35
3D body "62131421021.stp": height 5.9, standoff 0, extent -4.445,-2.55 4.445,2.55

## 62131621021 [mm] "Pin Header, pitch 1.27 mm, SMD, Vertical, dual row, 16p"
height 6.1
pads (16):
  rect 0.75x2.4 smd: 1(-4.445,-1.95) 2(-4.445,1.95) 3(-3.175,-1.95) 4(-3.175,1.95) 5(-1.905,-1.95) 6(-1.905,1.95) 7(-0.635,-1.95) 8(-0.635,1.95) 9(0.635,-1.95) 10(0.635,1.95) 11(1.905,-1.95) 12(1.905,1.95) 13(3.175,-1.95) 14(3.175,1.95) 15(4.445,-1.95) 16(4.445,1.95)
Top Overlay:
  lines w0.2: -5.08,-1.7 -5.08,1.7 ; 5.08,-1.7 5.08,1.7
  text "1" at -5.71,-2.4 h1.02
  text "2" at -6.11,1.4 h1.02
  text "15" at 5.41,-2.4 h1.02
  text "16" at 5.41,1.4 h1.02
Mechanical 13:
  lines w0.1: -4.645,-1.7 -4.645,-2.5 -4.245,-2.5 -4.245,-1.7 ; -4.645,1.7 -4.645,2.5 -4.245,2.5 -4.245,1.7 ; -3.375,-1.7 -3.375,-2.5 -2.975,-2.5 -2.975,-1.7 ; -3.375,1.7 -3.375,2.5 -2.975,2.5 -2.975,1.7 ; -2.105,-1.7 -2.105,-2.5 -1.705,-2.5 -1.705,-1.7 ; -2.105,1.7 -2.105,2.5 -1.705,2.5 -1.705,1.7 ; -0.835,-1.7 -0.835,-2.5 -0.435,-2.5 -0.435,-1.7 ; -0.835,1.7 -0.835,2.5 -0.435,2.5 -0.435,1.7 ; 0.435,-1.7 0.435,-2.5 0.835,-2.5 0.835,-1.7 ; 0.435,1.7 0.435,2.5 0.835,2.5 0.835,1.7 ; 1.705,-1.7 1.705,-2.5 2.105,-2.5 2.105,-1.7 ; 1.705,1.7 1.705,2.5 2.105,2.5 2.105,1.7 ; 2.975,-1.7 2.975,-2.5 3.375,-2.5 3.375,-1.7 ; 2.975,1.7 2.975,2.5 3.375,2.5 3.375,1.7 ; 4.245,-1.7 4.245,-2.5 4.645,-2.5 4.645,-1.7 ; 4.245,1.7 4.245,2.5 4.645,2.5 4.645,1.7 ; -5.08,-1.7 -5.08,1.7 5.08,1.7 5.08,-1.7 -5.08,-1.7
Mechanical 15:
  lines w0.05: -0.5,0 0.5,0 ; 0,-0.5 0,0.5 ; -5.28,-3.35 -5.28,3.35 5.28,3.35 5.28,-3.35 -5.28,-3.35
3D body "62131621021.stp": height 5.9, standoff 0, extent -5.08,-2.55 5.08,2.55